# Altium footprint library SS90000002.PcbLib: 1 footprints
Each footprint in its own frame and in the unit in brackets; x right, y up, seen from the top. Pads: shape width x height; smd on the part's side, far side on the other; paste and mask are expansions set on the pad; w line width, h text height; cw(c..) or ccw(c..) is an arc to the next point about the centre after c.
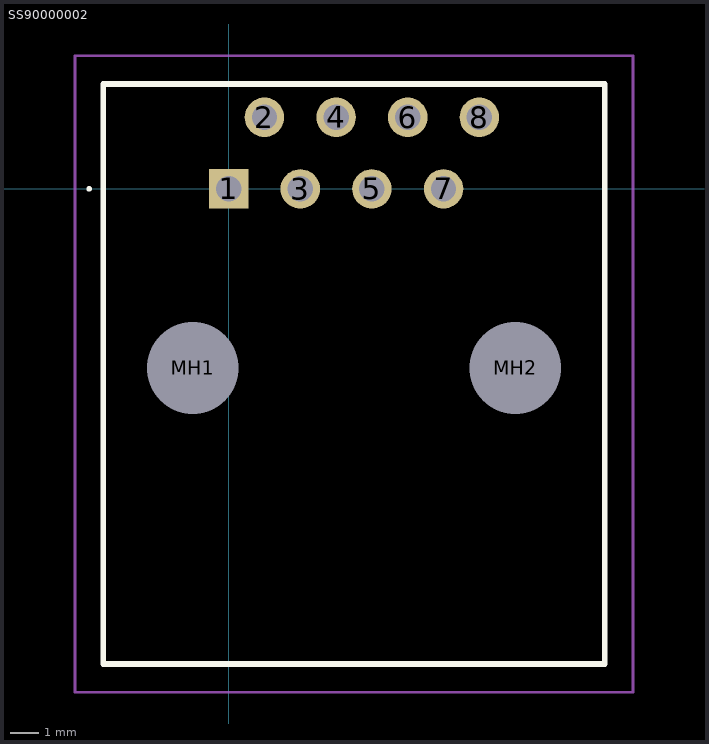
[diagram p0: the footprint, top view; thin cyan lines are the x and y axes]

## SS90000002 [mm]
pads (10):
  rect 1.4x1.4 hole 0.9: 1(0,0)
  round 1.4 hole 0.9: 2(1.27,2.54) 3(2.54,0) 4(3.81,2.54) 5(5.08,0) 6(6.35,2.54) 7(7.62,0) 8(8.89,2.54)
  round 1.625 hole 3.25 unplated: MH1(-1.27,-6.35) MH2(10.16,-6.35)
Top Overlay:
  lines w0.1: -5,0 -5,0 ; -5,0 ccw(c-4.95,0) -4.9,0 ; -5,0 cw(c-4.95,0) -4.9,0 ; -4.9,0 -4.9,0
  lines w0.2: -4.445,-16.85 13.335,-16.85 13.335,3.72 -4.445,3.72 -4.445,-16.85
Mechanical 15:
  lines w0.1: -4.445,-16.85 13.335,-16.85 13.335,3.72 -4.445,3.72 -4.445,-16.85
Mechanical 20:
  lines w0.1: -5.445,-17.85 14.335,-17.85 14.335,4.72 -5.445,4.72 -5.445,-17.85
3D body "SS-90000-002.stp": height 5.8, standoff -4.65, extent -10,-3.376 10,3.376